# Altium footprint library WOG Package.PcbLib: 1 footprints
Each footprint in its own frame and in the unit in brackets; x right, y up, seen from the top. Pads: shape width x height; smd on the part's side, far side on the other; paste and mask are expansions set on the pad; w line width, h text height; cw(c..) or ccw(c..) is an arc to the next point about the centre after c.
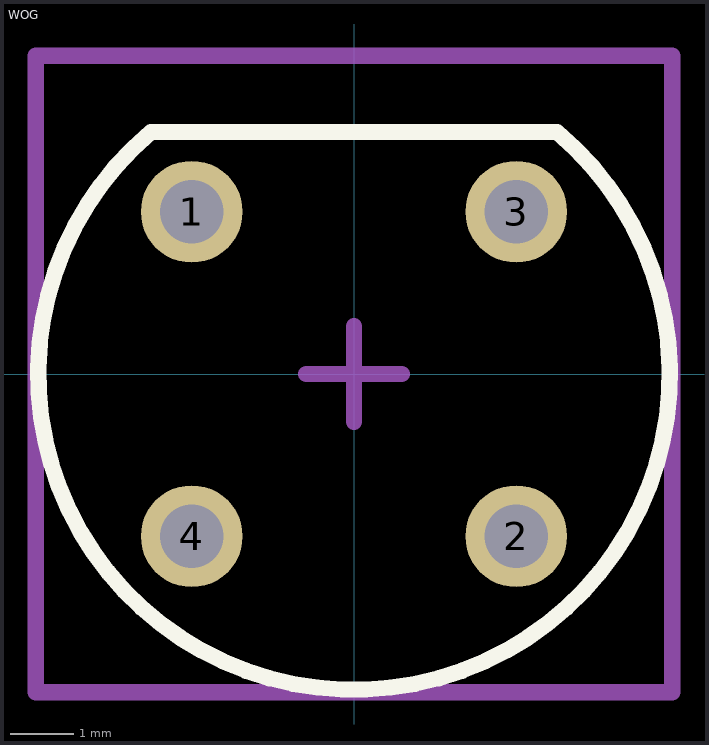
[diagram p0: the footprint, top view; thin cyan lines are the x and y axes]

## WOG [mm]
pads (4):
  round 1.6 hole 1: 1(-2.55,2.55) 2(2.55,-2.55) 3(2.55,2.55) 4(-2.55,-2.55)
Top Overlay:
  lines w0.254: -3.19,3.801 ccw(c0,0) 3.19,3.801 -3.19,3.801
Assembly:
  lines w0.254: -5,-5 -5,5 5,5 5,-5 -5,-5
Mechanical 15:
  lines w0.254: -0.75,0 0.75,0 ; 0,-0.75 0,0.75 ; -5,-5 -4.75,-5 5,-5 5,5 -5,5 -5,-5
3D body "WOG.STEP": height 4.85, standoff -26.4, extent -4.675,-4.675 4.675,3.655